# Altium integrated library SMAJ5.0CA.IntLib: 1 symbol
Pins are listed as number, name and electrical type; pins without a type are passive.

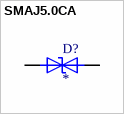
[diagram p0: symbol SMAJ5.0CA]

## SMAJ5.0CA
designator D?
A 5.0V, 400W, bi-directional, SMA pkg TVS Diode | Bourns SMAJ5.0CA; SnapEDA_Link: https://www.snapeda.com/parts/SMAJ5.0CA/Bourns/view-part/?ref=snap; Package: DO-214 Bourns; Value: *; MF: Bourns; MP: SMAJ5.0CA; Check_prices: https://www.snapeda.com/parts/SMAJ5.0CA/Bourns/view-part/?ref=eda
footprint DIOM5126X229N
pins: 1, 2